# EAGLE library part MAX3107EAG+ (library MAX3107EAG---Symbol-Eagle-1)
SPI/I2C UART with 128-Word FIFOs and Internal Oscillator
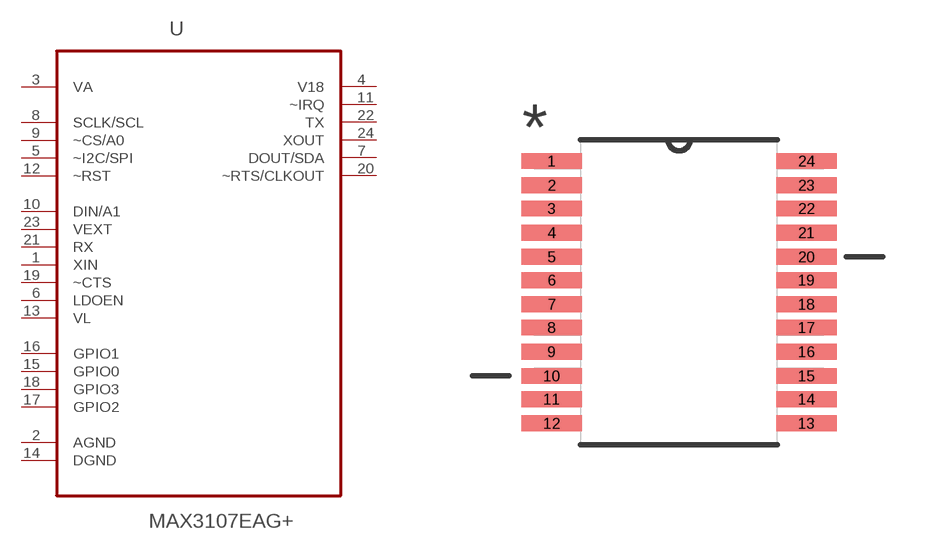
[diagram p0: symbol with the pads of SOP65P778X199-24N; footprint SOP65P778X199-24N]

Designator prefix U

## MAX3107EAG+ (MANUFACTURER: MAX3107EAG+; OC_FARNELL: -; OC_NEWARK: 60R4352; PACKAGE: SSOP-24; SUPPLIER: MAXIM)  [SOP65P778X199-24N]
1  XIN  in
2  AGND  pas
3  VA  pwr
4  V18
5  ~I2C/SPI  in
6  LDOEN  in
7  DOUT/SDA  out
8  SCLK/SCL  in
9  ~CS/A0  in
10  DIN/A1  in
11  ~IRQ  out
12  ~RST  in
13  VL  pwr
14  DGND  pas
15  GPIO0
16  GPIO1
17  GPIO2
18  GPIO3
19  ~CTS  in
20  ~RTS/CLKOUT  out
21  RX  in
22  TX  out
23  VEXT  in
24  XOUT  out

## Footprint SOP65P778X199-24N (pad centres in mm)
smd 1.651 x 0.432: 1 -3.48,3.581; 2 -3.48,2.921; 3 -3.48,2.286; 4 -3.48,1.626; 5 -3.48,0.965; 6 -3.48,0.33; 7 -3.48,-0.33; 8 -3.48,-0.965; 9 -3.48,-1.626; 10 -3.48,-2.286; 11 -3.48,-2.921; 12 -3.48,-3.581; 13 3.48,-3.581; 14 3.48,-2.921; 15 3.48,-2.286; 16 3.48,-1.626; 17 3.48,-0.965; 18 3.48,-0.33; 19 3.48,0.33; 20 3.48,0.965; 21 3.48,1.626; 22 3.48,2.286; 23 3.48,2.921; 24 3.48,3.581